# Altium footprint library FootprintsConnectors.PcbLib: 6 footprints
Each footprint in its own frame and in the unit in brackets; x right, y up, seen from the top. Pads: shape width x height; smd on the part's side, far side on the other; paste and mask are expansions set on the pad; w line width, h text height; cw(c..) or ccw(c..) is an arc to the next point about the centre after c.
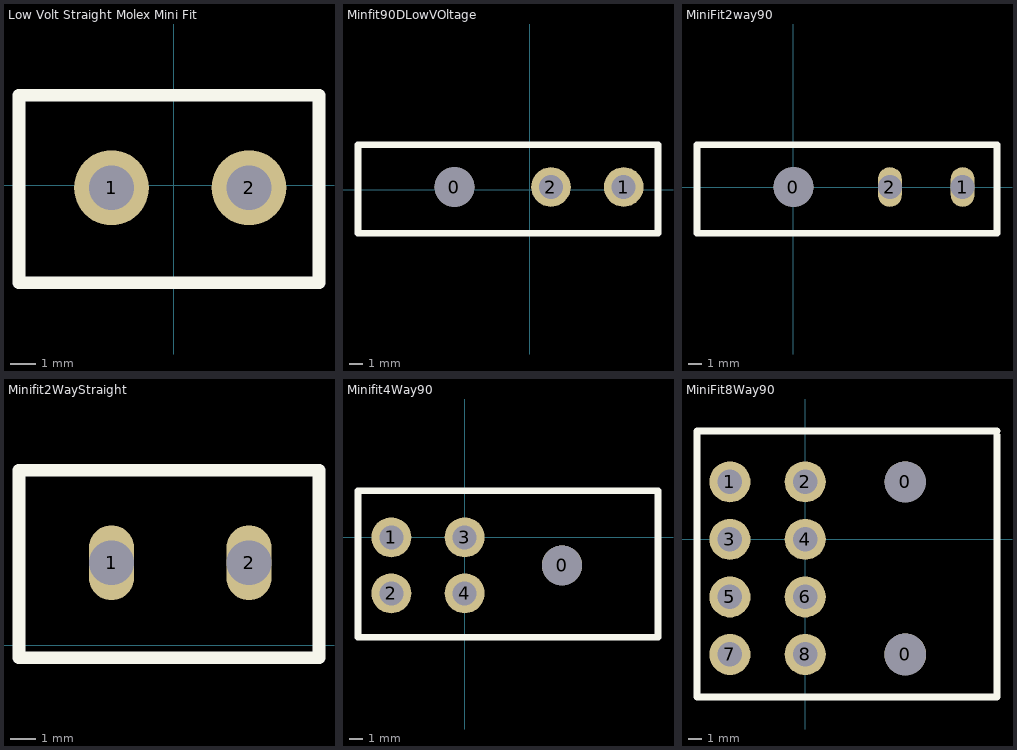
[diagram p0: the footprints below, top view; thin cyan lines are the x and y axes]

## Low Volt Straight Molex Mini Fit [mm] "Low Volt Straight Molex Mini Fit"
height 0.6
pads (2):
  round 3 hole 1.8: 1(-2.5,-0.1) 2(3,-0.1)
Top Overlay:
  lines w0.508: -6.2,-3.9 5.8,-3.9 5.8,3.6 -6.2,3.6 -6.2,3.1 -6.2,-3.9
3D body "2WayStraightMinifit.stp": height 12.8, standoff -3.5, extent -5.8,-3.3 5.2,2.9

## Minfit90DLowVOltage [mm] "Chip Resistor, 2-Leads, Body 2,15x1,35mm, IPC Medium Density"
height 0.6
pads (3):
  round 3 hole 3: 0(-5.7,0.2)
  round 3 hole 1.8: 1(7.1,0.2) 2(1.6,0.2)
Top Overlay:
  lines w0.508: -13,-3.3 -13,3.4 9.7,3.4 9.7,-3.3 -13,-3.3
3D body "2Way90degreeMiniFit.stp": height 11.4, standoff -3.6, extent -12.267,-2.9 7.667,2.9

## MiniFit2way90 [mm] "MiniFit2Way90"
height 3.56
pads (3):
  round 3 hole 3: 0(0,0)
  oval 1.8x3 hole 1.8: 1(12.8,0) 2(7.3,0)
Top Overlay:
  lines w0.508: -7.3,-3.5 -7.3,3.2 15.4,3.2 15.4,-3.5 -7.3,-3.5
3D body "2Way90degreeMiniFit.stp": height 11.4, standoff -3.6, extent -6.567,-3.1 13.367,2.7

## Minifit2WayStraight [mm] "Minifit2WayStraight"
height 3.56
pads (2):
  oval 1.8x3 hole 1.8: 1(6.7,3.3) 2(12.2,3.3)
Top Overlay:
  lines w0.508: 3,-0.5 3,6.5 3,7 15,7 15,-0.5 3,-0.5
3D body "2WayStraightMinifit.stp": height 12.8, standoff -3.5, extent 3.4,0.1 14.4,6.3

## Minifit4Way90 [mm] "Minifit 4Way 90 degrees"
height 3.56
pads (5):
  round 3 hole 3: 0(7.3,-2.1)
  round 3 hole 1.8: 1(-5.5,0) 2(-5.5,-4.2) 3(0,0) 4(0,-4.2)
Top Overlay:
  lines w0.508: -8,-7.5 -8,3.5 14.5,3.5 14.5,-7.5 -8,-7.5
3D body "4Way90degreeMiniFit.stp": height 11.4, standoff -3.6, extent -6.125,-6.88 13.81,3.12

## MiniFit8Way90 [mm] "MiniFit8Way90"
height 3.56
pads (10):
  round 3 hole 3: 0(7.3,4.2)
  round 3.05 hole 3.05: 0(7.3,-8.4)
  round 3 hole 1.8: 1(-5.5,4.2) 2(0,4.2) 3(-5.5,0) 4(0,0) 5(-5.5,-4.2) 6(0,-4.2) 7(-5.5,-8.4) 8(0,-8.4)
Top Overlay:
  lines w0.508: 14,7.6 14,-11.5 -7.9,-11.5 -7.9,7.9 14,7.9
3D body "8way90degreeMiniFit.stp": height 11.4, standoff -3.6, extent -6.3,-10.9 13.635,7.5